# Altium schematic symbol library SCH_Passive.SchLib: 22 symbols
Pins are listed as number, name and electrical type; pins without a type are passive.

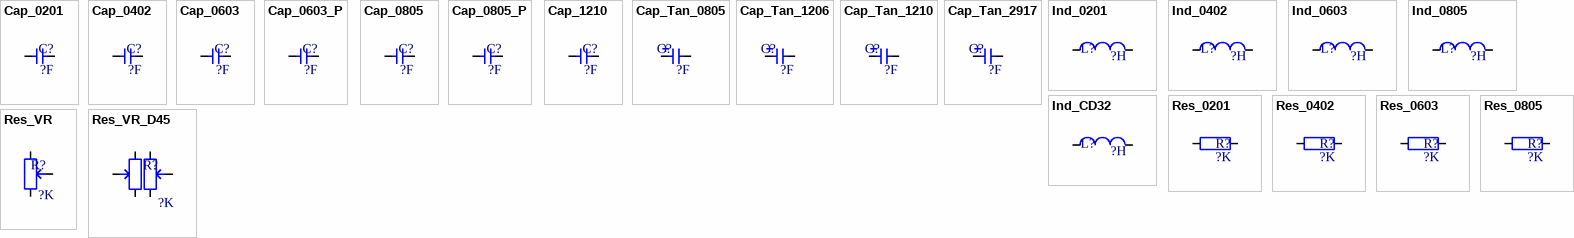
[diagram p0: symbols Cap_0201 to Res_VR_D45]

## Cap_0201
designator C?  value ?F  (hidden comment: Cap_0201)
Capacitor
footprint Cap_0201
pins: 1, 2

## Cap_0402
designator C?  value ?F  (hidden comment: Cap_0402)
Capacitor
footprint CAP_0402
pins: 1, 2

## Cap_0603
designator C?  value ?F  (hidden comment: Cap_0603)
Capacitor
footprint CAP_0603
pins: 1, 2

## Cap_0603_P
designator C?  value ?F  (hidden comment: Cap_0603_P)
Capacitor
footprint CAP_0603_P
pins: 1, 2

## Cap_0805
designator C?  value ?F  (hidden comment: Cap_0805)
Capacitor
footprint CAP_0805
pins: 1, 2

## Cap_0805_P
designator C?  value ?F  (hidden comment: Cap_0805_P)
Capacitor
footprint CAP_0805_P
pins: 1, 2

## Cap_1210
designator C?  value ?F  (hidden comment: Cap_1210)
Capacitor
footprint CAP_1210
pins: 1, 2

## Cap_Tan_0805
designator C?  value ?F  (hidden comment: Cap_Tan_0805)
Capacitor
footprint CAP_TAN_P0805
pins: 1, 2
1 alternate drawing of the same symbol

## Cap_Tan_1206
designator C?  value ?F  (hidden comment: Cap_Tan_1206)
Capacitor
footprint CAP_TAN_A1206
pins: 1, 2
1 alternate drawing of the same symbol

## Cap_Tan_1210
designator C?  value ?F  (hidden comment: Cap_Tan_1210)
Capacitor
footprint CAP_TAN_B1210
pins: 1, 2
1 alternate drawing of the same symbol

## Cap_Tan_2917
designator C?  value ?F  (hidden comment: Cap_Tan_2917)
Capacitor
footprint CAP_TAN_D2917
pins: 1, 2
1 alternate drawing of the same symbol

## Ind_0201
designator L?  value ?H  (hidden comment: Ind_0201)
Inductor
footprint IND_0201
pins: 1, 2

## Ind_0402
designator L?  value ?H  (hidden comment: Ind_0402)
Inductor
footprint IND_0402
pins: 1, 2

## Ind_0603
designator L?  value ?H  (hidden comment: Ind_0603)
Inductor
footprint IND_0603
pins: 1, 2

## Ind_0805
designator L?  value ?H  (hidden comment: Ind_0805)
Inductor
footprint IND_0805
pins: 1, 2

## Ind_CD32
designator L?  value ?H  (hidden comment: Ind_CD32)
Inductor
footprint IND_CD32
pins: 1, 2

## Res_0201
designator R?  value ?K  (hidden comment: Res_0201)
Resistor
footprint Res_0201
pins: 1, 2

## Res_0402
designator R?  value ?K  (hidden comment: Res_0402)
Resistor
footprint RES_0402
pins: 1, 2

## Res_0603
designator R?  value ?K  (hidden comment: Res_0603)
Resistor
footprint RES_0603
pins: 1, 2

## Res_0805
designator R?  value ?K  (hidden comment: Res_0805)
Resistor
footprint RES_0805
pins: 1, 2

## Res_VR
designator R?  value ?K  (hidden comment: Res_VR)
Resistor
footprint RES_VR_Gear
pins: 1, 2, 3

## Res_VR_D45
designator R?  value ?K  (hidden comment: Res_VR_D45)
Resistor
footprint RES_VR_D45mm
pins: 1 U, 2 W, 3 U, 4 W, 5 D, 6 D